# EAGLE library part DF40C-50DS (library sf-keyglove)
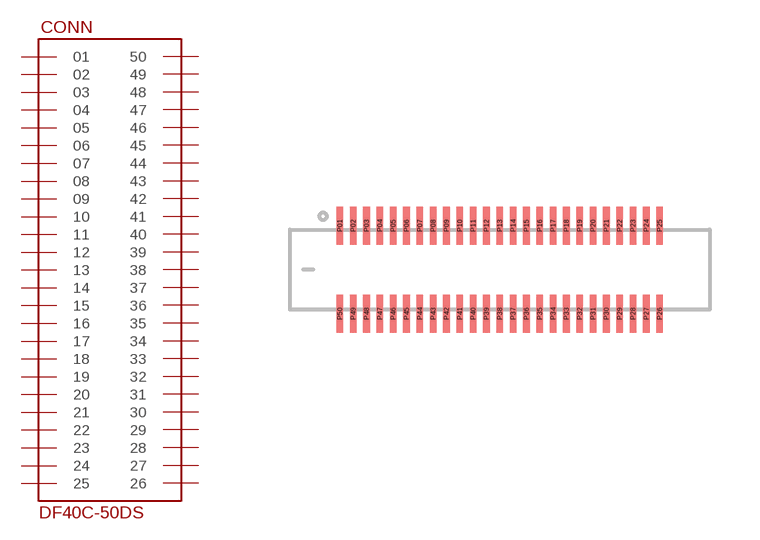
[diagram p9: symbol with the pads of DF40C-50DS; footprint DF40C-50DS]

Designator prefix CONN

## DF40C-50DS  [DF40C-50DS]
P01  01
P02  02
P03  03
P04  04
P05  05
P06  06
P07  07
P08  08
P09  09
P10  10
P11  11
P12  12
P13  13
P14  14
P15  15
P16  16
P17  17
P18  18
P19  19
P20  20
P21  21
P22  22
P23  23
P24  24
P25  25
P26  26
P27  27
P28  28
P29  29
P30  30
P31  31
P32  32
P33  33
P34  34
P35  35
P36  36
P37  37
P38  38
P39  39
P40  40
P41  41
P42  42
P43  43
P44  44
P45  45
P46  46
P47  47
P48  48
P49  49
P50  50

## Footprint DF40C-50DS (pad centres in mm)
smd 0.2 x 1.14: P01 -4.8,1.32; P02 -4.4,1.32; P03 -4,1.32; P04 -3.6,1.32; P05 -3.2,1.32; P06 -2.8,1.32; P07 -2.4,1.32; P08 -2,1.32; P09 -1.6,1.32; P10 -1.2,1.32; P11 -0.8,1.32; P12 -0.4,1.32; P13 0,1.32; P14 0.4,1.32; P15 0.8,1.32; P16 1.2,1.32; P17 1.6,1.32; P18 2,1.32; P19 2.4,1.32; P20 2.8,1.32; P21 3.2,1.32; P22 3.6,1.32; P23 4,1.32; P24 4.4,1.32; P25 4.8,1.32; P26 4.8,-1.32; P27 4.4,-1.32; P28 4,-1.32; P29 3.6,-1.32; P30 3.2,-1.32; P31 2.8,-1.32; P32 2.4,-1.32; P33 2,-1.32; P34 1.6,-1.32; P35 1.2,-1.32; P36 0.8,-1.32; P37 0.4,-1.32; P38 0,-1.32; P39 -0.4,-1.32; P40 -0.8,-1.32; P41 -1.2,-1.32; P42 -1.6,-1.32; P43 -2,-1.32; P44 -2.4,-1.32; P45 -2.8,-1.32; P46 -3.2,-1.32; P47 -3.6,-1.32; P48 -4,-1.32; P49 -4.4,-1.32; P50 -4.8,-1.32